# Altium schematic symbol library Oscylator12.SchLib: 2 symbols
Pins are listed as number, name and electrical type; pins without a type are passive.

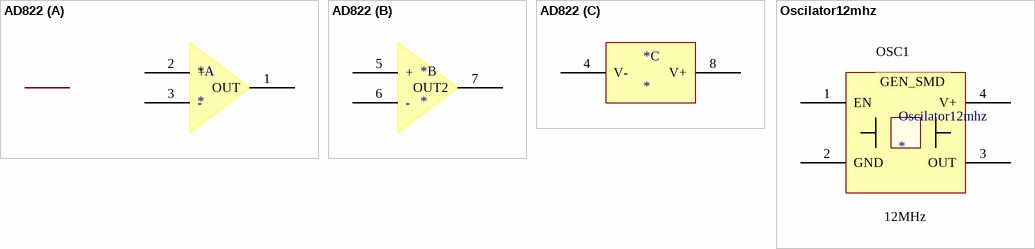
[diagram p0: symbols AD822 to Oscilator12mhz]

## AD822
designator *
part A pins: 1 OUT, 2 +, 3 -
part B pins: 5 +, 6 -, 7 OUT2
part C pins: 4 V-, 8 V+

## Oscilator12mhz
designator Oscilator12mhz
pins: 1 EN, 2 GND, 3 OUT, 4 V+
text: OSC1; GEN_SMD; Text; 12MHz